# Altium footprint library PCB - CONNECTOR - HARWIN - HARWIN M20-9960645.PcbLib: 1 footprints
Each footprint in its own frame and in the unit in brackets; x right, y up, seen from the top. Pads: shape width x height; smd on the part's side, far side on the other; paste and mask are expansions set on the pad; w line width, h text height; cw(c..) or ccw(c..) is an arc to the next point about the centre after c.
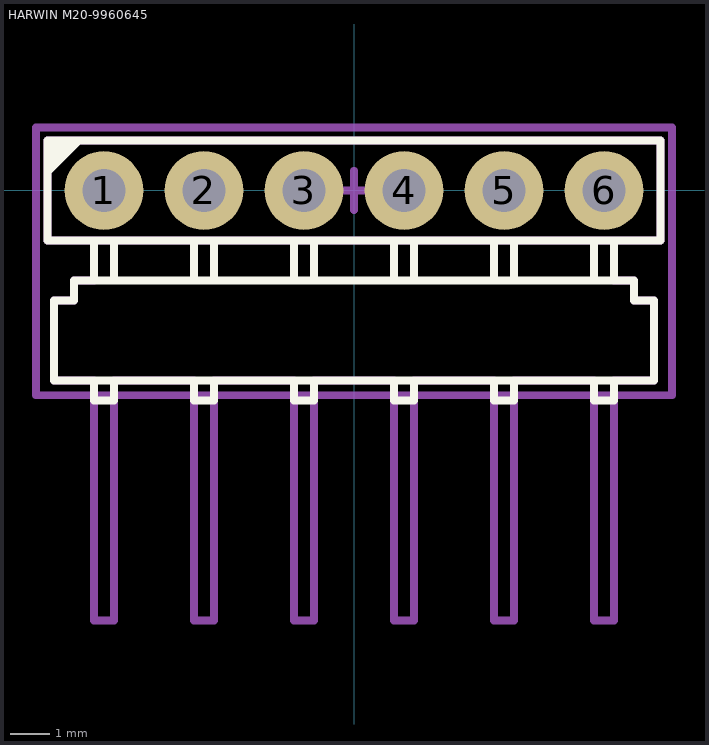
[diagram p0: the footprint, top view; thin cyan lines are the x and y axes]

## HARWIN M20-9960645 [mm] "2.54mm DIL PC TAIL PIN HEADER ASSEMBLY"
height 2.54
pads (6):
  round 2 hole 1.1: 1(-6.35,0) 2(-3.81,0) 3(-1.27,0) 4(1.27,0) 5(3.81,0) 6(6.35,0)
Top Overlay:
  region: -7.73,1.3 -7.73,0.4 -6.83,1.3
  lines w0.2: -6.604,-4.826 -6.604,-5.334 -6.096,-5.334 -6.096,-4.826 ; -6.604,-2.286 -6.604,-1.27 ; -6.096,-2.286 -6.096,-1.27 ; -4.064,-4.826 -4.064,-5.334 -3.556,-5.334 -3.556,-4.826 ; -4.064,-2.286 -4.064,-1.27 ; -3.556,-2.286 -3.556,-1.27 ; -1.524,-4.826 -1.524,-5.334 -1.016,-5.334 -1.016,-4.826 ; -1.524,-2.286 -1.524,-1.27 ; -1.016,-2.286 -1.016,-1.27 ; 1.016,-4.826 1.016,-5.334 1.524,-5.334 1.524,-4.826 ; 1.016,-2.286 1.016,-1.27 ; 1.524,-2.286 1.524,-1.27 ; 3.556,-4.826 3.556,-5.334 4.064,-5.334 4.064,-4.826 ; 3.556,-2.286 3.556,-1.27 ; 4.064,-2.286 4.064,-1.27 ; 6.096,-4.826 6.096,-5.334 6.604,-5.334 6.604,-4.826 ; 6.096,-2.286 6.096,-1.27 ; 6.604,-2.286 6.604,-1.27 ; -7.78,-1.27 7.78,-1.27 7.78,1.27 -7.78,1.27 -7.78,-1.27 ; -7.62,-4.826 7.62,-4.826 7.62,-2.794 7.112,-2.794 7.112,-2.286 -7.112,-2.286 -7.112,-2.794 -7.62,-2.794 -7.62,-4.826
Top Assembly:
  lines w0.2: -6.604,-1.27 -6.604,-2.286 -7.112,-2.286 -7.112,-2.794 -7.62,-2.794 -7.62,-4.826 -6.604,-4.826 -6.604,-10.922 -6.096,-10.922 -6.096,-4.826 -4.064,-4.826 -4.064,-10.922 -3.556,-10.922 -3.556,-4.826 -1.524,-4.826 -1.524,-10.922 -1.016,-10.922 -1.016,-4.826 1.016,-4.826 1.016,-10.922 1.524,-10.922 1.524,-4.826 3.556,-4.826 3.556,-10.922 4.064,-10.922 4.064,-4.826 6.096,-4.826 6.096,-10.922 6.604,-10.922 6.604,-4.826 7.62,-4.826 7.62,-2.794 7.112,-2.794 7.112,-2.286 6.604,-2.286 6.604,-1.27 ; -0.5,0 0.5,0 ; 0,-0.5 0,0.5 ; -7.78,-1.27 7.78,-1.27 7.78,1.27 -7.78,1.27 -7.78,-1.27
Top Courtyard (Mech15):
  lines w0.2: -8.08,-5.2 -8.08,1.6 8.08,1.6 8.08,-5.2 -8.08,-5.2
3D body "HARWIN M20-9960645.step": height 2.54, standoff -3, extent -7.62,-10.9 7.62,0.32